# EAGLE library part ICE40-TQFP144 (library MIDI router MCU parts)
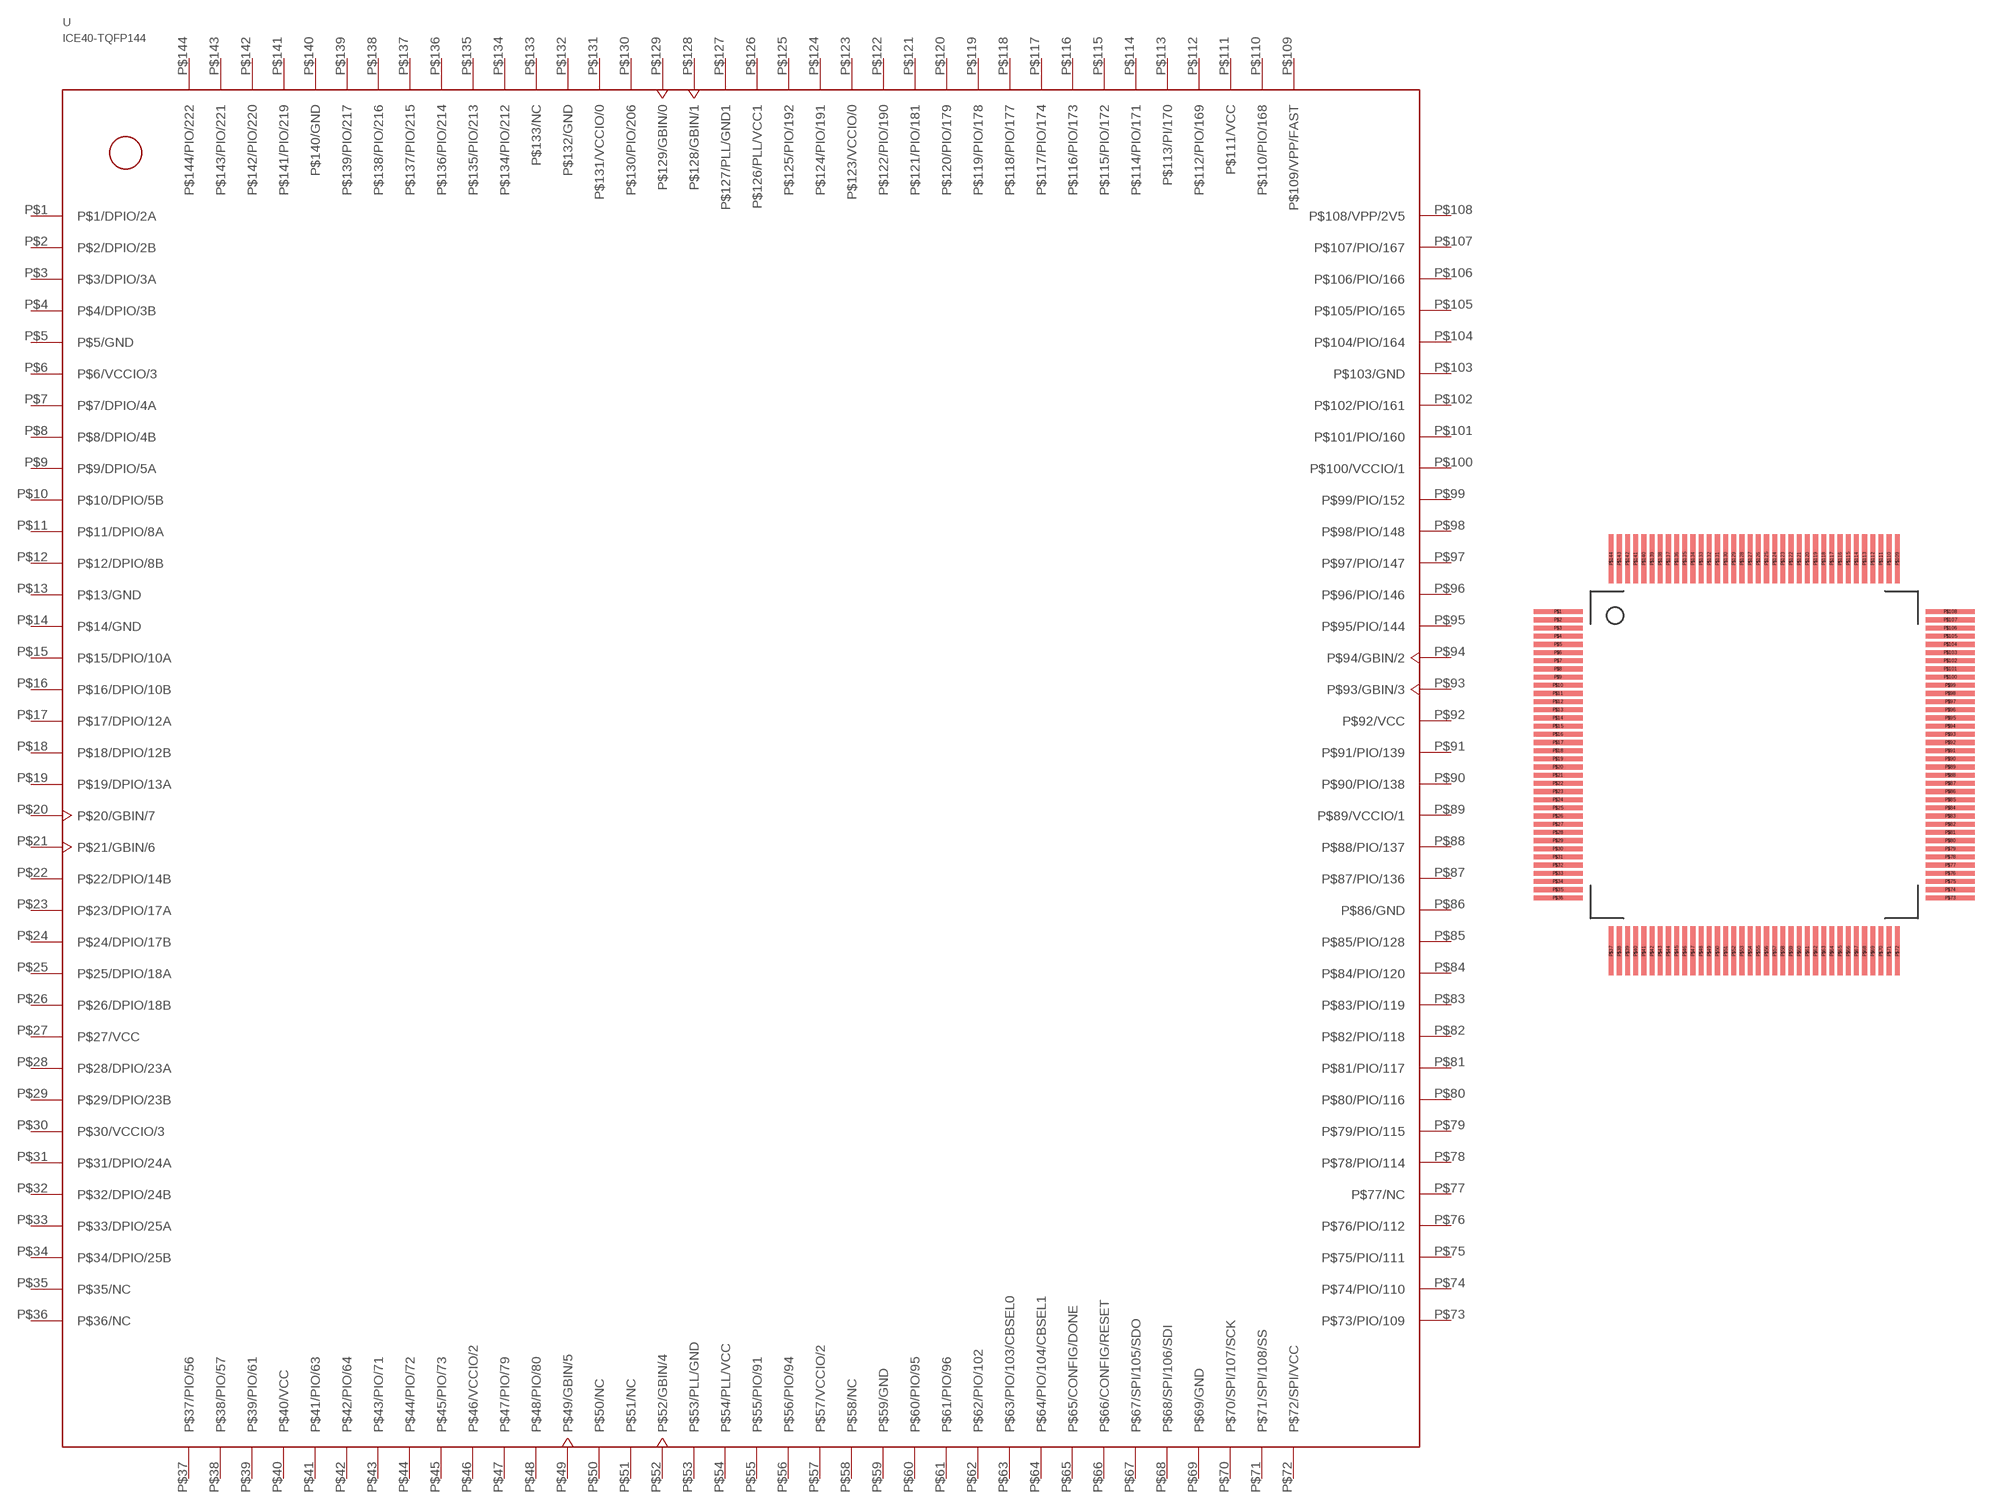
[diagram p3: symbol with the pads of ICE40-TQFP144; footprint ICE40-TQFP144]

Designator prefix -

## ICE40-TQFP144  [ICE40-TQFP144]
P$1  P$1/DPIO/2A
P$2  P$2/DPIO/2B
P$3  P$3/DPIO/3A
P$4  P$4/DPIO/3B
P$5  P$5/GND
P$6  P$6/VCCIO/3
P$7  P$7/DPIO/4A
P$8  P$8/DPIO/4B
P$9  P$9/DPIO/5A
P$10  P$10/DPIO/5B
P$11  P$11/DPIO/8A
P$12  P$12/DPIO/8B
P$13  P$13/GND
P$14  P$14/GND
P$15  P$15/DPIO/10A
P$16  P$16/DPIO/10B
P$17  P$17/DPIO/12A
P$18  P$18/DPIO/12B
P$19  P$19/DPIO/13A
P$20  P$20/GBIN/7
P$21  P$21/GBIN/6
P$22  P$22/DPIO/14B
P$23  P$23/DPIO/17A
P$24  P$24/DPIO/17B
P$25  P$25/DPIO/18A
P$26  P$26/DPIO/18B
P$27  P$27/VCC
P$28  P$28/DPIO/23A
P$29  P$29/DPIO/23B
P$30  P$30/VCCIO/3
P$31  P$31/DPIO/24A
P$32  P$32/DPIO/24B
P$33  P$33/DPIO/25A
P$34  P$34/DPIO/25B
P$35  P$35/NC
P$36  P$36/NC
P$37  P$37/PIO/56
P$38  P$38/PIO/57
P$39  P$39/PIO/61
P$40  P$40/VCC
P$41  P$41/PIO/63
P$42  P$42/PIO/64
P$43  P$43/PIO/71
P$44  P$44/PIO/72
P$45  P$45/PIO/73
P$46  P$46/VCCIO/2
P$47  P$47/PIO/79
P$48  P$48/PIO/80
P$49  P$49/GBIN/5
P$50  P$50/NC
P$51  P$51/NC
P$52  P$52/GBIN/4
P$53  P$53/PLL/GND
P$54  P$54/PLL/VCC
P$55  P$55/PIO/91
P$56  P$56/PIO/94
P$57  P$57/VCCIO/2
P$58  P$58/NC
P$59  P$59/GND
P$60  P$60/PIO/95
P$61  P$61/PIO/96
P$62  P$62/PIO/102
P$63  P$63/PIO/103/CBSEL0
P$64  P$64/PIO/104/CBSEL1
P$65  P$65/CONFIG/DONE
P$66  P$66/CONFIG/RESET
P$67  P$67/SPI/105/SDO
P$68  P$68/SPI/106/SDI
P$69  P$69/GND
P$70  P$70/SPI/107/SCK
P$71  P$71/SPI/108/SS
P$72  P$72/SPI/VCC
P$73  P$73/PIO/109
P$74  P$74/PIO/110
P$75  P$75/PIO/111
P$76  P$76/PIO/112
P$77  P$77/NC
P$78  P$78/PIO/114
P$79  P$79/PIO/115
P$80  P$80/PIO/116
P$81  P$81/PIO/117
P$82  P$82/PIO/118
P$83  P$83/PIO/119
P$84  P$84/PIO/120
P$85  P$85/PIO/128
P$86  P$86/GND
P$87  P$87/PIO/136
P$88  P$88/PIO/137
P$89  P$89/VCCIO/1
P$90  P$90/PIO/138
P$91  P$91/PIO/139
P$92  P$92/VCC
P$93  P$93/GBIN/3
P$94  P$94/GBIN/2
P$95  P$95/PIO/144
P$96  P$96/PIO/146
P$97  P$97/PIO/147
P$98  P$98/PIO/148
P$99  P$99/PIO/152
P$100  P$100/VCCIO/1
P$101  P$101/PIO/160
P$102  P$102/PIO/161
P$103  P$103/GND
P$104  P$104/PIO/164
P$105  P$105/PIO/165
P$106  P$106/PIO/166
P$107  P$107/PIO/167
P$108  P$108/VPP/2V5
P$109  P$109/VPP/FAST
P$110  P$110/PIO/168
P$111  P$111/VCC
P$112  P$112/PIO/169
P$113  P$113/PI/170
P$114  P$114/PIO/171
P$115  P$115/PIO/172
P$116  P$116/PIO/173
P$117  P$117/PIO/174
P$118  P$118/PIO/177
P$119  P$119/PIO/178
P$120  P$120/PIO/179
P$121  P$121/PIO/181
P$122  P$122/PIO/190
P$123  P$123/VCCIO/0
P$124  P$124/PIO/191
P$125  P$125/PIO/192
P$126  P$126/PLL/VCC1
P$127  P$127/PLL/GND1
P$128  P$128/GBIN/1
P$129  P$129/GBIN/0
P$130  P$130/PIO/206
P$131  P$131/VCCIO/0
P$132  P$132/GND
P$133  P$133/NC
P$134  P$134/PIO/212
P$135  P$135/PIO/213
P$136  P$136/PIO/214
P$137  P$137/PIO/215
P$138  P$138/PIO/216
P$139  P$139/PIO/217
P$140  P$140/GND
P$141  P$141/PIO/219
P$142  P$142/PIO/220
P$143  P$143/PIO/221
P$144  P$144/PIO/222

## Footprint ICE40-TQFP144 (pad centres in mm)
smd 3 x 0.3: P$1 -2,-1.25; P$2 -2,-1.75; P$3 -2,-2.25; P$4 -2,-2.75; P$5 -2,-3.25; P$6 -2,-3.75; P$7 -2,-4.25; P$8 -2,-4.75; P$9 -2,-5.25; P$10 -2,-5.75; P$11 -2,-6.25; P$12 -2,-6.75; P$13 -2,-7.25; P$14 -2,-7.75; P$15 -2,-8.25; P$16 -2,-8.75; P$17 -2,-9.25; P$18 -2,-9.75; P$19 -2,-10.25; P$20 -2,-10.75; P$21 -2,-11.25; P$22 -2,-11.75; P$23 -2,-12.25; P$24 -2,-12.75; P$25 -2,-13.25; P$26 -2,-13.75; P$27 -2,-14.25; P$28 -2,-14.75; P$29 -2,-15.25; P$30 -2,-15.75; P$31 -2,-16.25; P$32 -2,-16.75; P$33 -2,-17.25; P$34 -2,-17.75; P$35 -2,-18.25; P$36 -2,-18.75; P$73 22,-18.75; P$74 22,-18.25; P$75 22,-17.75; P$76 22,-17.25; P$77 22,-16.75; P$78 22,-16.25; P$79 22,-15.75; P$80 22,-15.25; P$81 22,-14.75; P$82 22,-14.25; P$83 22,-13.75; P$84 22,-13.25; P$85 22,-12.75; P$86 22,-12.25; P$87 22,-11.75; P$88 22,-11.25; P$89 22,-10.75; P$90 22,-10.25; P$91 22,-9.75; P$92 22,-9.25; P$93 22,-8.75; P$94 22,-8.25; P$95 22,-7.75; P$96 22,-7.25; P$97 22,-6.75; P$98 22,-6.25; P$99 22,-5.75; P$100 22,-5.25; P$101 22,-4.75; P$102 22,-4.25; P$103 22,-3.75; P$104 22,-3.25; P$105 22,-2.75; P$106 22,-2.25; P$107 22,-1.75; P$108 22,-1.25
smd 0.3 x 3: P$37 1.25,-22; P$38 1.75,-22; P$39 2.25,-22; P$40 2.75,-22; P$41 3.25,-22; P$42 3.75,-22; P$43 4.25,-22; P$44 4.75,-22; P$45 5.25,-22; P$46 5.75,-22; P$47 6.25,-22; P$48 6.75,-22; P$49 7.25,-22; P$50 7.75,-22; P$51 8.25,-22; P$52 8.75,-22; P$53 9.25,-22; P$54 9.75,-22; P$55 10.25,-22; P$56 10.75,-22; P$57 11.25,-22; P$58 11.75,-22; P$59 12.25,-22; P$60 12.75,-22; P$61 13.25,-22; P$62 13.75,-22; P$63 14.25,-22; P$64 14.75,-22; P$65 15.25,-22; P$66 15.75,-22; P$67 16.25,-22; P$68 16.75,-22; P$69 17.25,-22; P$70 17.75,-22; P$71 18.25,-22; P$72 18.75,-22; P$109 18.75,2; P$110 18.25,2; P$111 17.75,2; P$112 17.25,2; P$113 16.75,2; P$114 16.25,2; P$115 15.75,2; P$116 15.25,2; P$117 14.75,2; P$118 14.25,2; P$119 13.75,2; P$120 13.25,2; P$121 12.75,2; P$122 12.25,2; P$123 11.75,2; P$124 11.25,2; P$125 10.75,2; P$126 10.25,2; P$127 9.75,2; P$128 9.25,2; P$129 8.75,2; P$130 8.25,2; P$131 7.75,2; P$132 7.25,2; P$133 6.75,2; P$134 6.25,2; P$135 5.75,2; P$136 5.25,2; P$137 4.75,2; P$138 4.25,2; P$139 3.75,2; P$140 3.25,2; P$141 2.75,2; P$142 2.25,2; P$143 1.75,2; P$144 1.25,2